# EAGLE library part MFRC52201HN1,151 (library MFRC52201HN1_151)
MFRC52201 Series 1.6 V - 3.6 V IC Smart Card Reader - VQFN-32
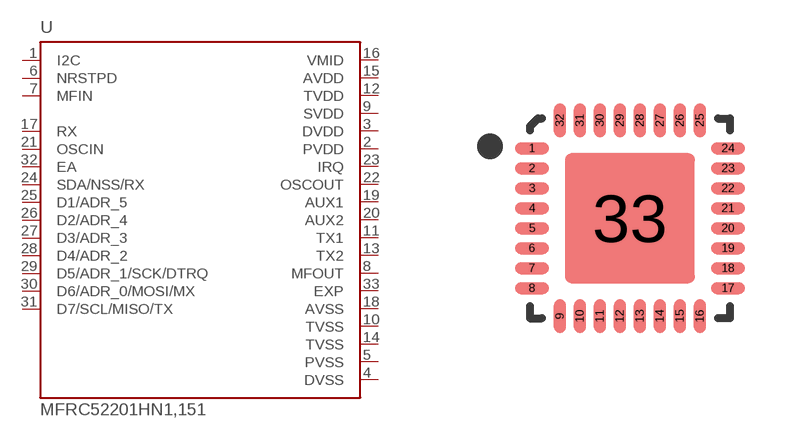
[diagram p0: symbol with the pads of QFN50P500X500X100-33N; footprint QFN50P500X500X100-33N]

Designator prefix U

## MFRC52201HN1,151 (Availability: Good; Description: MFRC52201 Series 1.6 V - 3.6 V IC Smart Card Reader - VQFN-32; MF: NXP Semiconductors; MP: MFRC52201HN1,151; Package: HVQFN-32 NXP Semiconductors; Price: 4.36 USD)  [QFN50P500X500X100-33N]
1  I2C  in
2  PVDD  pwr
3  DVDD  pwr
4  DVSS  pwr
5  PVSS  pwr
6  NRSTPD  in
7  MFIN  in
8  MFOUT  out
9  SVDD  pwr
10  TVSS  pwr
11  TX1  out
12  TVDD  pwr
13  TX2  out
14  TVSS  pwr
15  AVDD  pwr
16  VMID  pwr
17  RX  in
18  AVSS  pwr
19  AUX1  out
20  AUX2  out
21  OSCIN  in
22  OSCOUT  out
23  IRQ  out
24  SDA/NSS/RX
25  D1/ADR_5
26  D2/ADR_4
27  D3/ADR_3
28  D4/ADR_2
29  D5/ADR_1/SCK/DTRQ
30  D6/ADR_0/MOSI/MX
31  D7/SCL/MISO/TX
32  EA  in
33  EXP  pwr

## Footprint QFN50P500X500X100-33N (pad centres in mm)
smd 0.85 x 0.3: 1 -2.45,1.75; 2 -2.45,1.25; 3 -2.45,0.75; 4 -2.45,0.25; 5 -2.45,-0.25; 6 -2.45,-0.75; 7 -2.45,-1.25; 8 -2.45,-1.75; 17 2.45,-1.75; 18 2.45,-1.25; 19 2.45,-0.75; 20 2.45,-0.25; 21 2.45,0.25; 22 2.45,0.75; 23 2.45,1.25; 24 2.45,1.75
smd 0.3 x 0.85: 9 -1.75,-2.45; 10 -1.25,-2.45; 11 -0.75,-2.45; 12 -0.25,-2.45; 13 0.25,-2.45; 14 0.75,-2.45; 15 1.25,-2.45; 16 1.75,-2.45; 25 1.75,2.45; 26 1.25,2.45; 27 0.75,2.45; 28 0.25,2.45; 29 -0.25,2.45; 30 -0.75,2.45; 31 -1.25,2.45; 32 -1.75,2.45
smd 3.25 x 3.25: 33 0,0